# Altium schematic symbol library WE-PSPA.SchLib: 13 symbols
Pins are listed as number, name and electrical type; pins without a type are passive.

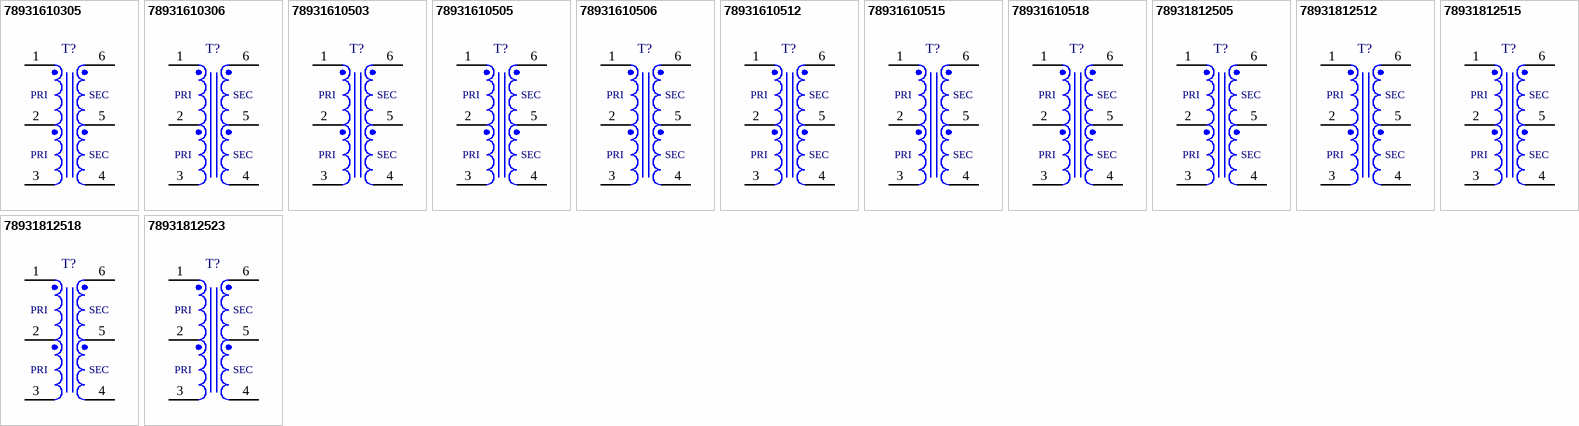
[diagram p0: symbols 78931610305 to 78931812523]

## 78931610305
designator T?, comment Ui = 3.3V, Uo = 5V, Io = 350mA  (value not drawn)
WE-PSPA Push Pull & Gate Drive Transformer, SMT, size 1006, Ui = 3.3V, Uo = 5V, Io = 350mA; Manufacturer Part Number: 78931610305; Manufacturer: Wurth Elektronik; Case/Size Code: 1006; DC Resistance 1: 145mOhm; Inductance: 475uH; Leakage Inductance: 600nH; Turns Ratio: 1:1.69; Voltage-µSecond: 11Vus; DC Resistance 3: 225mOhm; Insulation Test Voltage (AC): 2500V; Turns Ratio Test Condition: (1-3) : (6-4); Category: Gate Drive Transformers; Match Code: WE-PSPA; ComponentLink1Description: Website Link; ComponentLink1URL: https://www.we-online.com/redexpert/article/78931610305?ad; ComponentLink2Description: Datasheet Link; ComponentLink2URL: https://www.we-online.com/redexpert/spec/78931610305?ad; Mount: Surface Mount; Min Operating Temperature: -40°C; Max Operating Temperature: 125°C; Packaging: Tape and Reel; Length: 10.46mm; Width: 6.73mm; Height: 4.74mm; Automotive: Yes; DC Resistance 2: 145mOhm; Input Voltage: 3.3V; Output Voltage: 5V; DC Resistance 4: 225mOhm; Output Current: 350mA
footprint WE-PSPA_1006
pins: 1, 2, 3, 4, 5, 6
text: PRI; SEC

## 78931610306
designator T?, comment Ui = 3.3V, Uo = 5V, Io = 350mA  (value not drawn)
WE-PSPA Push Pull & Gate Drive Transformer, SMT, size 1006, Ui = 3.3V, Uo = 5V, Io = 350mA; Manufacturer Part Number: 78931610306; Manufacturer: Wurth Elektronik; Case/Size Code: 1006; DC Resistance 1: 145mOhm; Inductance: 475uH; Leakage Inductance: 500nH; Turns Ratio: 1:2; Voltage-µSecond: 11Vus; DC Resistance 3: 270mOhm; Insulation Test Voltage (AC): 2500V; Turns Ratio Test Condition: (1-3) : (6-4); Category: Gate Drive Transformers; Match Code: WE-PSPA; ComponentLink1Description: Website Link; ComponentLink1URL: https://www.we-online.com/redexpert/article/78931610306?ad; ComponentLink2Description: Datasheet Link; ComponentLink2URL: https://www.we-online.com/redexpert/spec/78931610306?ad; Mount: Surface Mount; Min Operating Temperature: -40°C; Max Operating Temperature: 125°C; Packaging: Tape and Reel; Length: 10.46mm; Width: 6.73mm; Height: 4.74mm; Automotive: Yes; DC Resistance 2: 145mOhm; Input Voltage: 3.3V; Output Voltage: 5V; DC Resistance 4: 270mOhm; Output Current: 350mA
footprint WE-PSPA_1006
pins: 1, 2, 3, 4, 5, 6
text: PRI; SEC

## 78931610503
designator T?, comment Ui = 5V, Uo = 3.3V, Io = 350mA  (value not drawn)
WE-PSPA Push Pull & Gate Drive Transformer, SMT, size 1006, Ui = 5V, Uo = 3.3V, Io = 350mA; Manufacturer Part Number: 78931610503; Manufacturer: Wurth Elektronik; Case/Size Code: 1006; DC Resistance 1: 135mOhm; Inductance: 475uH; Leakage Inductance: 500nH; Turns Ratio: 1:1.23; Voltage-µSecond: 11Vus; DC Resistance 3: 155mOhm; Insulation Test Voltage (AC): 2500V; Turns Ratio Test Condition: (1-3) : (6-4); Category: Gate Drive Transformers; Match Code: WE-PSPA; ComponentLink1Description: Website Link; ComponentLink1URL: https://www.we-online.com/redexpert/article/78931610503?ad; ComponentLink2Description: Datasheet Link; ComponentLink2URL: https://www.we-online.com/redexpert/spec/78931610503?ad; Mount: Surface Mount; Min Operating Temperature: -40°C; Max Operating Temperature: 125°C; Packaging: Tape and Reel; Length: 10.46mm; Width: 6.73mm; Height: 4.74mm; Automotive: Yes; DC Resistance 2: 135mOhm; Input Voltage: 5V; Output Voltage: 3.3V; DC Resistance 4: 155mOhm; Output Current: 350mA
footprint WE-PSPA_1006
pins: 1, 2, 3, 4, 5, 6
text: PRI; SEC

## 78931610505
designator T?, comment Ui = 5V, Uo = 5V, Io = 350mA  (value not drawn)
WE-PSPA Push Pull & Gate Drive Transformer, SMT, size 1006, Ui = 5V, Uo = 5V, Io = 350mA; Manufacturer Part Number: 78931610505; Manufacturer: Wurth Elektronik; Case/Size Code: 1006; DC Resistance 1: 140mOhm; Inductance: 475uH; Leakage Inductance: 500nH; Turns Ratio: 1:1.15; Voltage-µSecond: 11Vus; DC Resistance 3: 150mOhm; Insulation Test Voltage (AC): 2500V; Turns Ratio Test Condition: (1-3) : (6-4); Category: Gate Drive Transformers; Match Code: WE-PSPA; ComponentLink1Description: Website Link; ComponentLink1URL: https://www.we-online.com/redexpert/article/78931610505?ad; ComponentLink2Description: Datasheet Link; ComponentLink2URL: https://www.we-online.com/redexpert/spec/78931610505?ad; Mount: Surface Mount; Min Operating Temperature: -40°C; Max Operating Temperature: 125°C; Packaging: Tape and Reel; Length: 10.46mm; Width: 6.73mm; Height: 4.74mm; Automotive: Yes; DC Resistance 2: 140mOhm; Input Voltage: 5V; Output Voltage: 5V; DC Resistance 4: 150mOhm; Output Current: 350mA
footprint WE-PSPA_1006
pins: 1, 2, 3, 4, 5, 6
text: PRI; SEC

## 78931610506
designator T?, comment Ui = 5V, Uo = 5V, Io = 350mA  (value not drawn)
WE-PSPA Push Pull & Gate Drive Transformer, SMT, size 1006, Ui = 5V, Uo = 5V, Io = 350mA; Manufacturer Part Number: 78931610506; Manufacturer: Wurth Elektronik; Case/Size Code: 1006; DC Resistance 1: 135mOhm; Inductance: 475uH; Leakage Inductance: 500nH; Turns Ratio: 1:1.31; Voltage-µSecond: 11Vus; DC Resistance 3: 160mOhm; Insulation Test Voltage (AC): 2500V; Turns Ratio Test Condition: (1-3) : (6-4); Category: Gate Drive Transformers; Match Code: WE-PSPA; ComponentLink1Description: Website Link; ComponentLink1URL: https://www.we-online.com/redexpert/article/78931610506?ad; ComponentLink2Description: Datasheet Link; ComponentLink2URL: https://www.we-online.com/redexpert/spec/78931610506?ad; Mount: Surface Mount; Min Operating Temperature: -40°C; Max Operating Temperature: 125°C; Packaging: Tape and Reel; Length: 10.46mm; Width: 6.73mm; Height: 4.74mm; Automotive: Yes; DC Resistance 2: 135mOhm; Input Voltage: 5V; Output Voltage: 5V; DC Resistance 4: 160mOhm; Output Current: 350mA
footprint WE-PSPA_1006
pins: 1, 2, 3, 4, 5, 6
text: PRI; SEC

## 78931610512
designator T?, comment Ui = 5V, Uo = 12V, Io = 150mA  (value not drawn)
WE-PSPA Push Pull & Gate Drive Transformer, SMT, size 1006, Ui = 5V, Uo = 12V, Io = 150mA; Manufacturer Part Number: 78931610512; Manufacturer: Wurth Elektronik; Case/Size Code: 1006; DC Resistance 1: 165mOhm; Inductance: 475uH; Leakage Inductance: 500nH; Turns Ratio: 1:2.54; Voltage-µSecond: 11Vus; DC Resistance 3: 335mOhm; Insulation Test Voltage (AC): 2500V; Turns Ratio Test Condition: (1-3) : (6-4); Category: Gate Drive Transformers; Match Code: WE-PSPA; ComponentLink1Description: Website Link; ComponentLink1URL: https://www.we-online.com/redexpert/article/78931610512?ad; ComponentLink2Description: Datasheet Link; ComponentLink2URL: https://www.we-online.com/redexpert/spec/78931610512?ad; Mount: Surface Mount; Min Operating Temperature: -40°C; Max Operating Temperature: 125°C; Packaging: Tape and Reel; Length: 10.46mm; Width: 6.73mm; Height: 4.74mm; Automotive: Yes; DC Resistance 2: 165mOhm; Input Voltage: 5V; Output Voltage: 12V; DC Resistance 4: 335mOhm; Output Current: 150mA
footprint WE-PSPA_1006
pins: 1, 2, 3, 4, 5, 6
text: PRI; SEC

## 78931610515
designator T?, comment Ui = 5V, Uo = 15V, Io = 115mA  (value not drawn)
WE-PSPA Push Pull & Gate Drive Transformer, SMT, size 1006, Ui = 5V, Uo = 15V, Io = 115mA; Manufacturer Part Number: 78931610515; Manufacturer: Wurth Elektronik; Case/Size Code: 1006; DC Resistance 1: 155mOhm; Inductance: 475uH; Leakage Inductance: 500nH; Turns Ratio: 1:3.15; Voltage-µSecond: 11Vus; DC Resistance 3: 635mOhm; Insulation Test Voltage (AC): 2500V; Turns Ratio Test Condition: (1-3) : (6-4); Category: Gate Drive Transformers; Match Code: WE-PSPA; ComponentLink1Description: Website Link; ComponentLink1URL: https://www.we-online.com/redexpert/article/78931610515?ad; ComponentLink2Description: Datasheet Link; ComponentLink2URL: https://www.we-online.com/redexpert/spec/78931610515?ad; Mount: Surface Mount; Min Operating Temperature: -40°C; Max Operating Temperature: 125°C; Packaging: Tape and Reel; Length: 10.46mm; Width: 6.73mm; Height: 4.74mm; Automotive: Yes; DC Resistance 2: 155mOhm; Input Voltage: 5V; Output Voltage: 15V; DC Resistance 4: 635mOhm; Output Current: 115mA
footprint WE-PSPA_1006
pins: 1, 2, 3, 4, 5, 6
text: PRI; SEC

## 78931610518
designator T?, comment Ui = 5V, Uo = 18V, Io = 100mA  (value not drawn)
WE-PSPA Push Pull & Gate Drive Transformer, SMT, size 1006, Ui = 5V, Uo = 18V, Io = 100mA; Manufacturer Part Number: 78931610518; Manufacturer: Wurth Elektronik; Case/Size Code: 1006; DC Resistance 1: 160mOhm; Inductance: 475uH; Leakage Inductance: 500nH; Turns Ratio: 1:3.77; Voltage-µSecond: 11Vus; DC Resistance 3: 775mOhm; Insulation Test Voltage (AC): 2500V; Turns Ratio Test Condition: (1-3) : (6-4); Category: Gate Drive Transformers; Match Code: WE-PSPA; ComponentLink1Description: Website Link; ComponentLink1URL: https://www.we-online.com/redexpert/article/78931610518?ad; ComponentLink2Description: Datasheet Link; ComponentLink2URL: https://www.we-online.com/redexpert/spec/78931610518?ad; Mount: Surface Mount; Min Operating Temperature: -40°C; Max Operating Temperature: 125°C; Packaging: Tape and Reel; Length: 10.46mm; Width: 6.73mm; Height: 4.74mm; Automotive: Yes; DC Resistance 2: 160mOhm; Input Voltage: 5V; Output Voltage: 18V; DC Resistance 4: 775mOhm; Output Current: 100mA
footprint WE-PSPA_1006
pins: 1, 2, 3, 4, 5, 6
text: PRI; SEC

## 78931812505
designator T?, comment Ui = 5V, Uo = 5V, Io = 750mA  (value not drawn)
WE-PSPA Push Pull & Gate Drive Transformer, SMT, size 1208, Ui = 5V, Uo = 5V, Io = 750mA; Manufacturer Part Number: 78931812505; Manufacturer: Wurth Elektronik; Case/Size Code: 1208; DC Resistance 1: 55mOhm; Inductance: 86uH; Leakage Inductance: 600nH; Turns Ratio: 1:1.13; Voltage-µSecond: 9.5Vus; DC Resistance 3: 60mOhm; Insulation Test Voltage (AC): 2500V; Turns Ratio Test Condition: (1-3) : (6-4); Category: Gate Drive Transformers; Match Code: WE-PSPA; ComponentLink1Description: Website Link; ComponentLink1URL: https://www.we-online.com/redexpert/article/78931812505?ad; ComponentLink2Description: Datasheet Link; ComponentLink2URL: https://www.we-online.com/redexpert/spec/78931812505?ad; Mount: Surface Mount; Min Operating Temperature: -40°C; Max Operating Temperature: 125°C; Packaging: Tape and Reel; Length: 12.6mm; Width: 8.3mm; Height: 4.1mm; Automotive: Yes; DC Resistance 2: 55mOhm; Input Voltage: 5V; Output Voltage: 5V; DC Resistance 4: 60mOhm; Output Current: 750mA
footprint WE-PSPA_1208
pins: 1, 2, 3, 4, 5, 6
text: PRI; SEC

## 78931812512
designator T?, comment Ui = 5V, Uo = 12V, Io = 310mA  (value not drawn)
WE-PSPA Push Pull & Gate Drive Transformer, SMT, size 1208, Ui = 5V, Uo = 12V, Io = 310mA; Manufacturer Part Number: 78931812512; Manufacturer: Wurth Elektronik; Case/Size Code: 1208; DC Resistance 1: 60mOhm; Inductance: 86uH; Leakage Inductance: 300nH; Turns Ratio: 1:2.5; Voltage-µSecond: 9.5Vus; DC Resistance 3: 125mOhm; Insulation Test Voltage (AC): 2500V; Turns Ratio Test Condition: (1-3) : (6-4); Category: Gate Drive Transformers; Match Code: WE-PSPA; ComponentLink1Description: Website Link; ComponentLink1URL: https://www.we-online.com/redexpert/article/78931812512?ad; ComponentLink2Description: Datasheet Link; ComponentLink2URL: https://www.we-online.com/redexpert/spec/78931812512?ad; Mount: Surface Mount; Min Operating Temperature: -40°C; Max Operating Temperature: 125°C; Packaging: Tape and Reel; Length: 12.6mm; Width: 8.3mm; Height: 4.1mm; Automotive: Yes; DC Resistance 2: 60mOhm; Input Voltage: 5V; Output Voltage: 12V; DC Resistance 4: 125mOhm; Output Current: 310mA
footprint WE-PSPA_1208
pins: 1, 2, 3, 4, 5, 6
text: PRI; SEC

## 78931812515
designator T?, comment Ui = 5V, Uo = 15V, Io = 250mA  (value not drawn)
WE-PSPA Push Pull & Gate Drive Transformer, SMT, size 1208, Ui = 5V, Uo = 15V, Io = 250mA; Manufacturer Part Number: 78931812515; Manufacturer: Wurth Elektronik; Case/Size Code: 1208; DC Resistance 1: 60mOhm; Inductance: 86uH; Leakage Inductance: 300nH; Turns Ratio: 1:3.13; Voltage-µSecond: 9.5Vus; DC Resistance 3: 230mOhm; Insulation Test Voltage (AC): 2500V; Turns Ratio Test Condition: (1-3) : (6-4); Category: Gate Drive Transformers; Match Code: WE-PSPA; ComponentLink1Description: Website Link; ComponentLink1URL: https://www.we-online.com/redexpert/article/78931812515?ad; ComponentLink2Description: Datasheet Link; ComponentLink2URL: https://www.we-online.com/redexpert/spec/78931812515?ad; Mount: Surface Mount; Min Operating Temperature: -40°C; Max Operating Temperature: 125°C; Packaging: Tape and Reel; Length: 12.6mm; Width: 8.3mm; Height: 4.1mm; Automotive: Yes; DC Resistance 2: 60mOhm; Input Voltage: 5V; Output Voltage: 15V; DC Resistance 4: 230mOhm; Output Current: 250mA
footprint WE-PSPA_1208
pins: 1, 2, 3, 4, 5, 6
text: PRI; SEC

## 78931812518
designator T?, comment Ui = 5V, Uo = 18V, Io = 210mA  (value not drawn)
WE-PSPA Push Pull & Gate Drive Transformer, SMT, size 1208, Ui = 5V, Uo = 18V, Io = 210mA; Manufacturer Part Number: 78931812518; Manufacturer: Wurth Elektronik; Case/Size Code: 1208; DC Resistance 1: 60mOhm; Inductance: 86uH; Leakage Inductance: 300nH; Turns Ratio: 1:3.75; Voltage-µSecond: 9.5Vus; DC Resistance 3: 280mOhm; Insulation Test Voltage (AC): 2500V; Turns Ratio Test Condition: (1-3) : (6-4); Category: Gate Drive Transformers; Match Code: WE-PSPA; ComponentLink1Description: Website Link; ComponentLink1URL: https://www.we-online.com/redexpert/article/78931812518?ad; ComponentLink2Description: Datasheet Link; ComponentLink2URL: https://www.we-online.com/redexpert/spec/78931812518?ad; Mount: Surface Mount; Min Operating Temperature: -40°C; Max Operating Temperature: 125°C; Packaging: Tape and Reel; Length: 12.6mm; Width: 8.3mm; Height: 4.1mm; Automotive: Yes; DC Resistance 2: 60mOhm; Input Voltage: 5V; Output Voltage: 18V; DC Resistance 4: 280mOhm; Output Current: 210mA
footprint WE-PSPA_1208
pins: 1, 2, 3, 4, 5, 6
text: PRI; SEC

## 78931812523
designator T?, comment Ui = 5V, Uo = 23V, Io = 165mA  (value not drawn)
WE-PSPA Push Pull & Gate Drive Transformer, SMT, size 1208, Ui = 5V, Uo = 23V, Io = 165mA; Manufacturer Part Number: 78931812523; Manufacturer: Wurth Elektronik; Case/Size Code: 1208; DC Resistance 1: 65mOhm; Inductance: 86uH; Leakage Inductance: 300nH; Turns Ratio: 1:4.75; Voltage-µSecond: 9.5Vus; DC Resistance 3: 350mOhm; Insulation Test Voltage (AC): 2500V; Turns Ratio Test Condition: (1-3) : (6-4); Category: Gate Drive Transformers; Match Code: WE-PSPA; ComponentLink1Description: Website Link; ComponentLink1URL: https://www.we-online.com/redexpert/article/78931812523?ad; ComponentLink2Description: Datasheet Link; ComponentLink2URL: https://www.we-online.com/redexpert/spec/78931812523?ad; Mount: Surface Mount; Min Operating Temperature: -40°C; Max Operating Temperature: 125°C; Packaging: Tape and Reel; Length: 12.6mm; Width: 8.3mm; Height: 4.1mm; Automotive: Yes; DC Resistance 2: 65mOhm; Input Voltage: 5V; Output Voltage: 23V; DC Resistance 4: 350mOhm; Output Current: 165mA
footprint WE-PSPA_1208
pins: 1, 2, 3, 4, 5, 6
text: PRI; SEC